# Altium footprint library zyx.PcbLib: 17 footprints (part 2 of 4)
Each footprint in its own frame and in the unit in brackets; x right, y up, seen from the top. Pads: shape width x height; smd on the part's side, far side on the other; paste and mask are expansions set on the pad; w line width, h text height; cw(c..) or ccw(c..) is an arc to the next point about the centre after c.
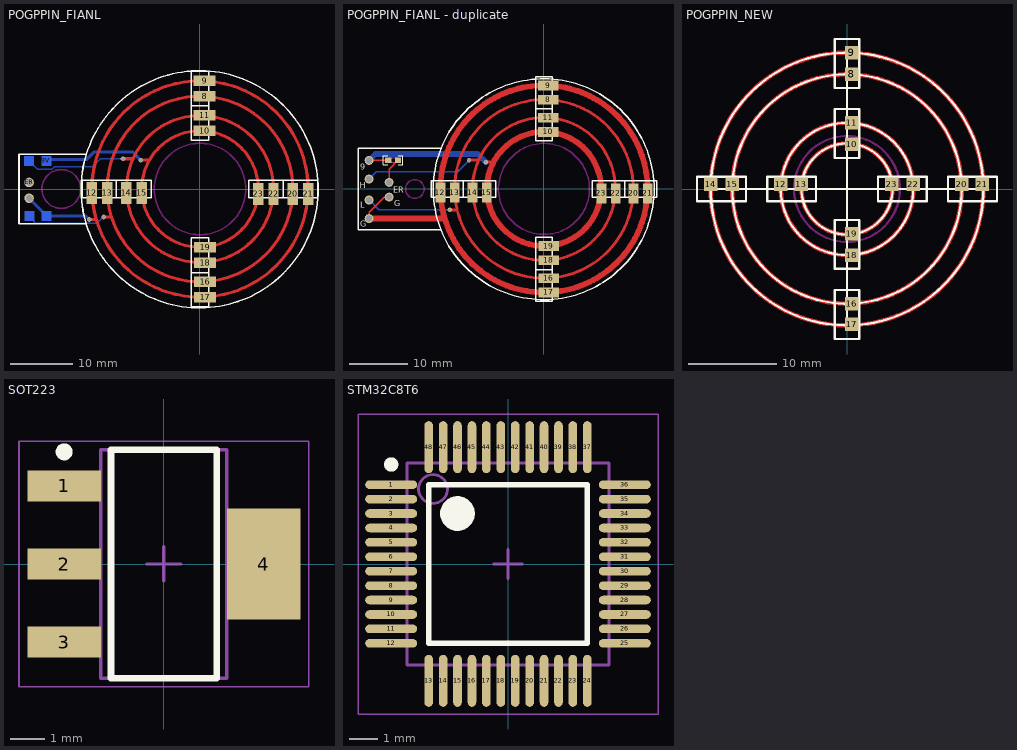
[diagram p1: the footprints below, top view; thin cyan lines are the x and y axes]

## POGPPIN_FIANL [mm]
pads (22):
  rect 3.5x1.68 smd: 8(0.725,14.87) 9(0.725,17.32) 10(0.725,9.33) 11(0.725,11.78) 16(0.825,-14.87) 17(0.825,-17.32) 18(0.825,-11.78) 19(0.825,-9.33)
  rect 1.524x1.524 smd far side: 9V(-24.6,4.5) CANH(-27.4,4.525) CANL(-27.35,-4.325) GND(-24.575,-4.325)
  rect 1.68x3.5 smd: 12(-17.32,-0.625) 13(-14.87,-0.625) 14(-11.78,-0.625) 15(-9.33,-0.625) 20(14.87,-0.775) 21(17.32,-0.775) 22(11.78,-0.775) 23(9.33,-0.775)
  round 1.524 hole 1: ER(-27.375,1.05) GND(-27.375,-1.475)
via -17.75,-4.875 diameter 0.762 hole 0.508
via -15.425,-4.475 diameter 0.762 hole 0.508
via -12.325,4.85 diameter 0.762 hole 0.508
via -9.5,4.625 diameter 0.762 hole 0.508
Top Layer:
  circle w0.5: c0,0 r17.32
  circle w0.5: c0,0 r14.87
  circle w0.5: c0,0 r9.33
  circle w0.5: c0,0 r11.78
  lines w0.5: -17.75,-4.875 -16.725,-4.875 ; -15.425,-4.475 -14.175,-4.475 ; -12.325,4.85 -10.775,4.85 ; -9.5,4.625 -8.125,4.625
Bottom Layer:
  lines w0.254: -27.4,4.525 -26.025,3.15 -23.7,3.15 -23.3,3.55 -17.225,3.55 -15.925,4.85 -12.325,4.85 ; -27.375,-1.525 -27.375,-1.475 ; -27.35,-4.325 -26.382,-5.5 -16.525,-5.5 -15.5,-4.475 -15.425,-4.475
  lines w0.5: -27.375,-1.525 -24.575,-4.325 -18.3,-4.325 -17.75,-4.875 ; -24.5,4.75 -18.125,4.75 -16.925,5.95 -10.825,5.95 -9.5,4.625
Top Overlay:
  circle w0.254: c-0.05,-0.05 r19
  lines w0.245: -13.395,-1.39 -13.395,1.39 ; -13.325,-1.39 -7.785,-1.39 -7.785,1.39 -13.325,1.39 ; -1.39,-18.865 1.39,-18.865 ; -1.39,-13.405 1.39,-13.405 ; -1.39,13.325 1.39,13.325 ; -1.39,18.865 -1.39,7.785 1.39,7.785 ; 1.39,7.805 1.39,18.865 ; 7.785,-1.39 18.865,-1.39 18.865,1.39 7.785,1.39 ; 13.325,-1.39 13.325,1.39
  lines w0.254: -18.325,-5.55 -29,-5.55 -29,5.55 -18.2,5.55 ; -13.38,-1.39 -18.865,-1.39 -18.865,1.39 -13.325,1.39 ; -1.39,-18.865 -1.39,-7.785 1.39,-7.785 1.39,-18.865 ; -1.39,18.865 1.39,18.865 ; 7.785,-1.39 7.785,1.39
Keep-Out Layer:
  circle w0.254: c0,0 r7.33
  circle w0.254: c-22.225,0 r3.1

## POGPPIN_FIANL - duplicate [mm]
pads (24):
  rect 1.1x1 smd: 1(-26.825,4.95) 2(-25.125,4.95)
  rect 3.5x1.68 smd: 8(0.725,15.345) 9(0.725,17.795) 10(0.725,9.805) 11(0.725,12.255) 16(0.825,-15.37) 17(0.825,-17.82) 18(0.825,-12.28) 19(0.825,-9.83)
  round 1.524 hole 1: 9V(-30.1,4.9) CANH(-30.1,1.7) CANL(-30.1,-1.9) ER(-26.65,1.125) GND(-30.1,-5.1) GND(-26.65,-1.4)
  rect 1.68x3.5 smd: 12(-17.82,-0.625) 13(-15.37,-0.625) 14(-12.28,-0.625) 15(-9.83,-0.625) 20(15.42,-0.775) 21(17.87,-0.775) 22(12.33,-0.775) 23(9.88,-0.775)
via -10.025,4.625 diameter 0.762 hole 0.508
via -12.9,4.95 diameter 0.762 hole 0.508
via -16.225,-3.6 diameter 0.762 hole 0.508
Top Layer:
  circle w0.5: c0,0 r12.28
  circle w1: c0,0 r9.83
  circle w0.5: c0,0 r15.37
  circle w1: c0,0 r17.82
  lines w0.254: -30.1,-5.1 -30.1,-3.975 -27.525,-1.4 -26.65,-1.4 -26.65,-1.65 ; -30.1,4.9 -30.05,4.95 -26.825,4.95 ; -26.65,1.125 -26.65,3.425 -25.125,4.95
  lines w0.5: -16.225,-3.6 -14.975,-3.6 ; -12.9,4.95 -11.35,4.95 ; -10.025,4.625 -8.65,4.625
  lines w1: -30.1,-5.1 -17.5,-5.1
Bottom Layer:
  lines w0.254: -30.1,-1.9 -28.4,-3.6 ; -30.1,1.7 -28.825,2.975 -14.875,2.975 -12.9,4.95 ; -26.65,-1.45 -26.65,-1.4 ; -16.3,-3.6 -16.225,-3.6 -28.4,-3.6 ; -28.4,-3.6 -28.4,-3.6
  lines w1: -30.1,4.9 -28.975,6.025 -11.425,6.025 -10.025,4.625
Top Overlay:
  circle w0.254: c-0.05,-0.05 r19
  lines w0.2: -26.864,4.188 -27.626,4.188 -27.626,5.712 -26.864,5.712 ; -25.086,4.188 -24.324,4.188 -24.324,5.712 -25.086,5.712
  lines w0.245: -14.25,1.39 -8.285,1.39 -8.285,-1.39 ; -13.895,-1.39 -13.895,1.39 ; -1.39,-19.365 1.39,-19.365 ; -1.39,-13.905 1.39,-13.905 ; -1.39,13.8 1.39,13.8 ; -1.39,19.34 -1.39,8.26 1.39,8.26 ; 1.39,8.28 1.39,19.34 ; 8.335,-1.39 19.415,-1.39 19.415,1.39 8.335,1.39 ; 13.875,-1.39 13.875,1.39
  lines w0.254: -17.8,-7 -32,-7 -32,7 -17.725,7 ; -14.25,1.39 -19.365,1.39 -19.365,-1.39 -8.285,-1.39 ; -1.39,-19.365 -1.39,-8.285 1.39,-8.285 1.39,-19.365 ; -1.39,19.34 1.39,19.34 ; 8.335,-1.39 8.335,1.39
  text "9" at -31.65,3.3 h1
  text "H" at -31.675,0.125 h1
  text "L" at -31.625,-3.2 h1
  text "G" at -31.65,-6.55 h1
  text "ER" at -25.95,-0.625 h1
  text "G" at -25.725,-2.95 h1
Keep-Out Layer:
  circle w0.254: c-22.225,0 r1.6
  circle w0.254: c0,0 r7.83
Mechanical 13:
  lines w0.025: -26.775,4.55 -25.175,4.55 -25.175,5.35 -26.775,5.35 -26.775,4.55
3D body: height 0.5, standoff 0, extent -26.3,4.5 -24.7,5.3

## POGPPIN_NEW [mm]
pads (16):
  rect 1.524x1.524 smd: 8(0.55,13) 9(0.55,15.45) 10(0.55,5.05) 11(0.55,7.5) 12(-7.5,0.55) 13(-5.16,0.55) 14(-15.45,0.55) 15(-13,0.55) 16(0.55,-13) 17(0.55,-15.34) 18(0.55,-7.5) 19(0.55,-5.05) 20(13,0.55) 21(15.34,0.55) 22(7.5,0.55) 23(5.05,0.55)
Top Layer:
  circle w0.5: c0,0 r15.45
  circle w0.5: c0,0 r13
  circle w0.5: c0,0 r5.16
  circle w0.5: c0,0 r7.5
Top Overlay:
  circle w0.254: c0,0 r5.16
  circle w0.254: c0,0 r7.5
  circle w0.254: c0,0 r15.45
  circle w0.254: c0,0 r13
  lines w0.245: -16.995,1.39 -16.995,-1.39 -11.455,-1.39 -11.455,1.39 -16.975,1.39 ; -15.175,0 15.45,0 ; -1.39,16.995 -1.39,11.455 1.39,11.455 1.39,16.995 ; 0,-15.325 0,15.5 ; 16.95,-1.39 11.455,-1.39 11.455,1.39 16.995,1.39 16.995,-1.39 ; -1.39,-16.995 -1.39,-11.455 1.39,-11.455 1.39,-16.995 -1.39,-16.995 ; -1.39,3.505 -1.39,9.045 1.39,9.045 1.39,3.505 -1.39,3.505
  lines w0.254: -1.39,-9.045 -1.39,-3.505 1.39,-3.505 1.39,-9.045 ; -1.39,16.995 1.39,16.995 ; -1.275,-9.045 1.325,-9.045 ; -9.045,-1.39 -9.045,1.39 -3.505,1.39 -3.505,-1.39 -9.045,-1.39 ; 3.505,-1.39 3.505,1.39 9.045,1.39 9.045,-1.39 3.505,-1.39
Keep-Out Layer:
  circle w0.254: c0,0 r6

## SOT223 [mm] "SOT223, 4-Leads, Body 6.50x7.00mm (avg), Pitch 2.29mm, IPC Medium Density"
height 1.8
pads (4):
  rect 2.15x0.9 smd: 1(-2.925,2.29) 2(-2.925,0) 3(-2.925,-2.29)
  rect 2.15x3.25 smd: 4(2.925,0)
Top Overlay:
  circle w0.25: c-2.925,3.29 r0.125
  lines w0.2: -1.55,-3.35 1.55,-3.35 1.55,3.35 -1.55,3.35 -1.55,-3.35
Mechanical 13:
  lines w0.1: -1.85,-3.35 1.85,-3.35 1.85,3.35 -1.85,3.35 -1.85,-3.35
Mechanical 15:
  lines w0.05: -4.25,-3.6 4.25,-3.6 4.25,3.6 -4.25,3.6 -4.25,-3.6
  lines w0.1: -0.5,0 0.5,0 ; 0,-0.5 0,0.5
3D body: height 1.8, standoff 0.02, extent -1.85,-3.35 1.85,3.35

## STM32C8T6 [mm]
pads (48):
  oval 1.8x0.3 smd: 1(-4.059,2.754) 2(-4.059,2.254) 3(-4.059,1.754) 4(-4.059,1.254) 5(-4.059,0.754) 6(-4.059,0.254) 7(-4.059,-0.246) 8(-4.059,-0.746) 9(-4.059,-1.246) 10(-4.059,-1.746) 11(-4.059,-2.246) 12(-4.059,-2.746) 25(4.041,-2.746) 26(4.041,-2.246) 27(4.041,-1.746) 28(4.041,-1.246) 29(4.041,-0.746) 30(4.041,-0.246) 31(4.041,0.254) 32(4.041,0.754) 33(4.041,1.254) 34(4.041,1.754) 35(4.041,2.254) 36(4.041,2.754)
  oval 0.3x1.8 smd: 13(-2.759,-4.046) 14(-2.259,-4.046) 15(-1.759,-4.046) 16(-1.259,-4.046) 17(-0.759,-4.046) 18(-0.259,-4.046) 19(0.241,-4.046) 20(0.741,-4.046) 21(1.241,-4.046) 22(1.741,-4.046) 23(2.241,-4.046) 24(2.741,-4.046) 37(2.741,4.054) 38(2.241,4.054) 39(1.741,4.054) 40(1.241,4.054) 41(0.741,4.054) 42(0.241,4.054) 43(-0.259,4.054) 44(-0.759,4.054) 45(-1.259,4.054) 46(-1.759,4.054) 47(-2.259,4.054) 48(-2.759,4.054)
Top Overlay:
  circle w0.25: c-4.059,3.454 r0.125
  circle w0.6: c-1.759,1.754 r0.3
  lines w0.2: -2.759,-2.746 -2.759,2.754 2.741,2.754 2.741,-2.746 -2.759,-2.746
Mechanical 13:
  circle w0.1: c-2.609,2.604 r0.5
  lines w0.1: -3.509,-3.496 -3.509,3.504 3.491,3.504 3.491,-3.496 -3.509,-3.496
Mechanical 15:
  lines w0.05: -5.209,-5.196 -5.209,5.204 5.191,5.204 5.191,-5.196 -5.209,-5.196
  lines w0.1: -0.509,0.004 0.491,0.004 ; -0.009,-0.496 -0.009,0.504
3D body: height 1.6, standoff 0, extent -3.509,-3.496 3.491,3.504